# EAGLE library part MAX1745 (library 000001)
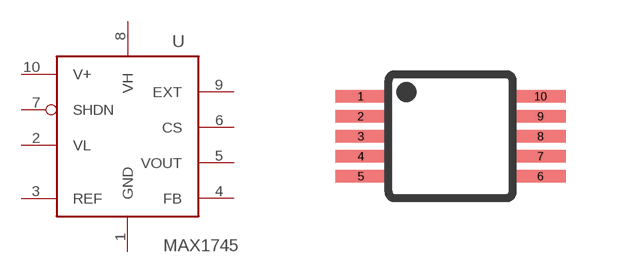
[diagram p55: symbol with the pads of UMAX10; footprint UMAX10]

Designator prefix -

## MAX1745  [UMAX10]
1  GND  pwr
2  VL  pwr
3  REF  pwr
4  FB  in
5  VOUT  pwr
6  CS  pwr
7  SHDN  in
8  VH  pwr
9  EXT  pwr
10  V+  pwr

## Footprint UMAX10 (pad centres in mm)
smd 1.27 x 0.305: 1 -2.25,1; 2 -2.25,0.5; 3 -2.25,0; 4 -2.25,-0.5; 5 -2.25,-1; 6 2.25,-1; 7 2.25,-0.5; 8 2.25,0; 9 2.25,0.5; 10 2.25,1